# Altium schematic symbol library 5M160ZE64.SchLib: 4 symbols
Pins are listed as number, name and electrical type; pins without a type are passive.

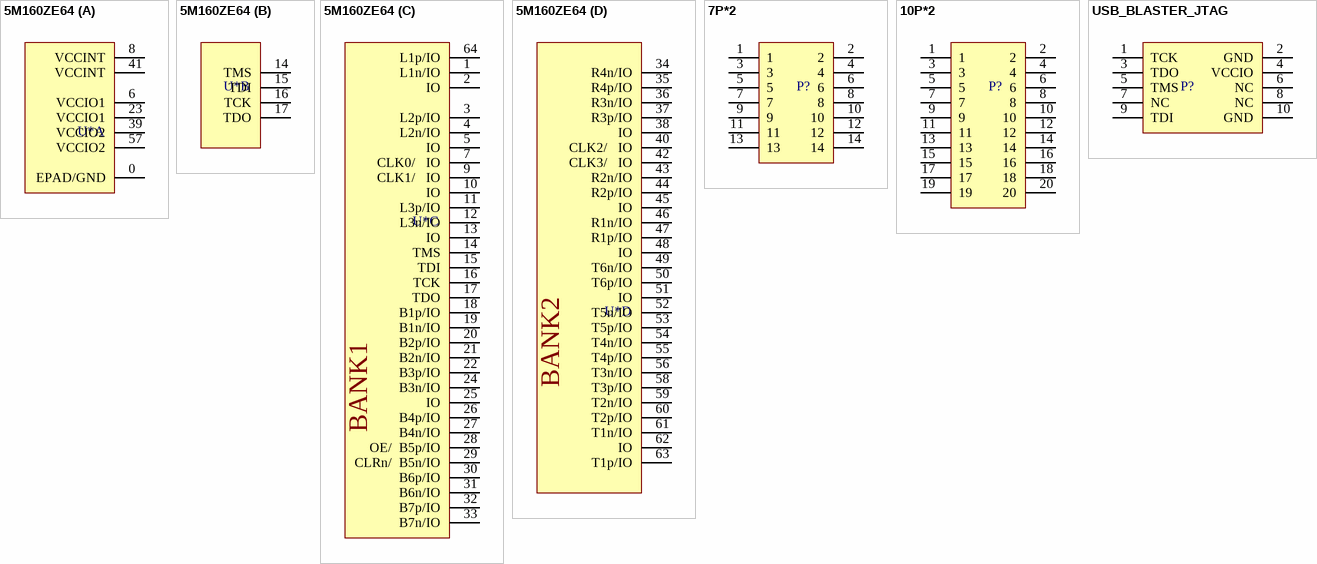
[diagram p0: symbols 5M160ZE64 to USB_BLASTER_JTAG]

## 5M160ZE64
designator U*  (value not drawn)
footprint 5M160ZE64
part A pins: 0 EPAD/GND, 6 VCCIO1, 8 VCCINT, 23 VCCIO1, 39 VCCIO2, 41 VCCINT, 57 VCCIO2
part B pins: 14 TMS, 15 TDI, 16 TCK, 17 TDO
part C pins: 1 L1n/IO, 2 IO, 3 L2p/IO, 4 L2n/IO, 5 IO, 7 CLK0/   IO, 9 CLK1/   IO, 10 IO, 11 L3p/IO, 12 L3n/IO, 13 IO, 14 TMS, 15 TDI, 16 TCK, 17 TDO, 18 B1p/IO, 19 B1n/IO, 20 B2p/IO, 21 B2n/IO, 22 B3p/IO, 24 B3n/IO, 25 IO, 26 B4p/IO, 27 B4n/IO, 28 OE/  B5p/IO, 29 CLRn/  B5n/IO, 30 B6p/IO, 31 B6n/IO, 32 B7p/IO, 33 B7n/IO, 64 L1p/IO
part D pins: 34 R4n/IO, 35 R4p/IO, 36 R3n/IO, 37 R3p/IO, 38 IO, 40 CLK2/   IO, 42 CLK3/   IO, 43 R2n/IO, 44 R2p/IO, 45 IO, 46 R1n/IO, 47 R1p/IO, 48 IO, 49 T6n/IO, 50 T6p/IO, 51 IO, 52 T5n/IO, 53 T5p/IO, 54 T4n/IO, 55 T4p/IO, 56 T3n/IO, 58 T3p/IO, 59 T2n/IO, 60 T2p/IO, 61 T1n/IO, 62 IO, 63 T1p/IO
part C text: BANK1
part D text: BANK2

## 7P*2
designator P?
footprint 7P*2, SIDE (Footprint not found)
pins: 1, 2, 3, 4, 5, 6, 7, 8, 9, 10, 11, 12, 13, 14

## 10P*2
designator P?
footprint 10P*2, SIDE
pins: 1, 2, 3, 4, 5, 6, 7, 8, 9, 10, 11, 12, 13, 14, 15, 16, 17, 18, 19, 20

## USB_BLASTER_JTAG
designator P?  (value not drawn)
footprint USB_BLASTER_JTAG_SIDE
footprint USB_BLASTER_JTAG
pins: 1 TCK, 2 GND, 3 TDO, 4 VCCIO, 5 TMS, 6 NC, 7 NC, 8 NC, 9 TDI, 10 GND